# Altium footprint library Projekt91.PcbLib: 27 footprints (part 1 of 2)
Each footprint in its own frame and in the unit in brackets; x right, y up, seen from the top. Pads: shape width x height; smd on the part's side, far side on the other; paste and mask are expansions set on the pad; w line width, h text height; cw(c..) or ccw(c..) is an arc to the next point about the centre after c.
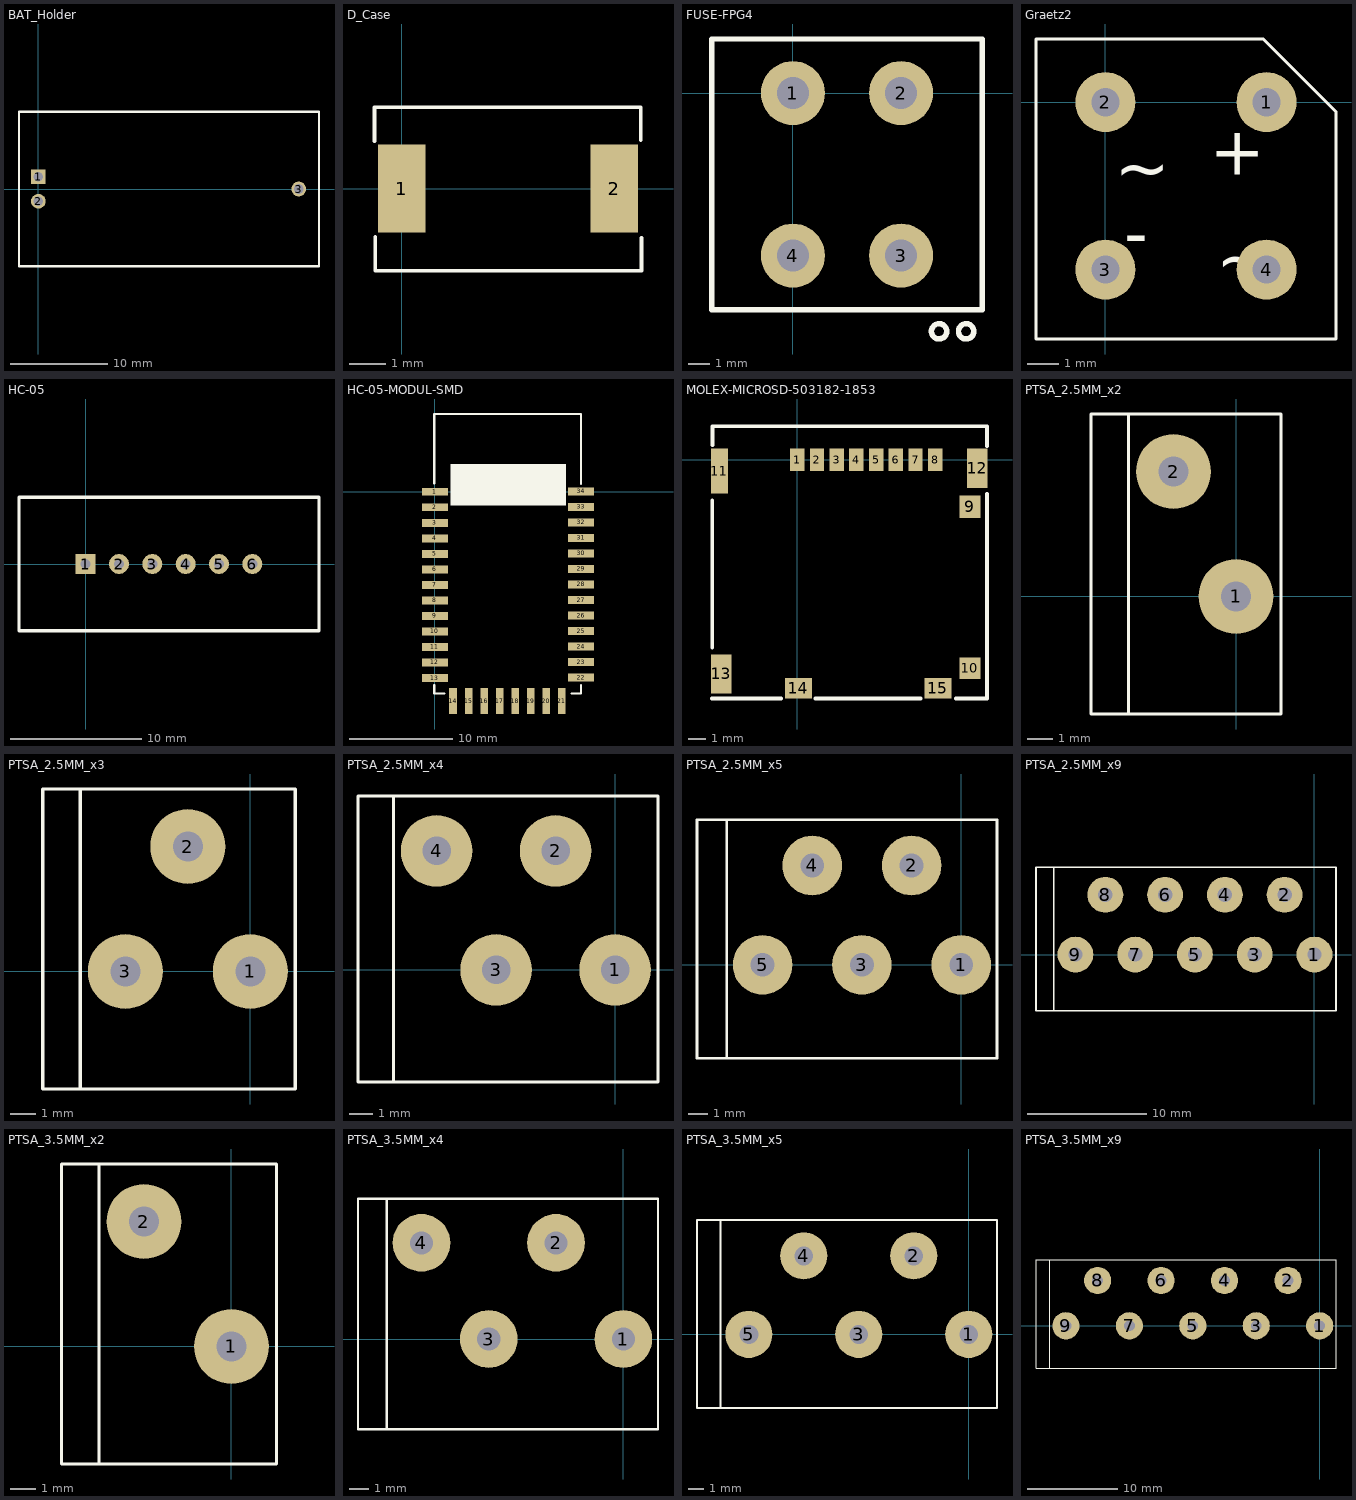
[diagram p0: the footprints below, top view; thin cyan lines are the x and y axes]

## BAT_Holder [mil] "Holder for CR2032 by Renata"
pads (3):
  rect 60x60 hole 39.37: 1(0,50)
  round 60 hole 39.37: 2(0,-50) 3(1059.06,0)
Top Overlay:
  lines w10: -78.74,-314.96 -78.74,314.96 1141.73,314.96 1141.73,-314.96 -78.74,-314.96

## D_Case [mm]
pads (2):
  rect 1.3x2.4 smd: 1(0,0) 2(5.8,0)
Top Overlay:
  lines w0.1: -0.75,1.3 -0.75,2.225 5.55,2.225 6.525,2.225 6.525,1.325 ; -0.725,-1.325 -0.725,-2.25 5.575,-2.25 6.55,-2.25 6.55,-1.35

## FUSE-FPG4 [mm]
pads (4):
  round 3 hole 1.5: 1(0,0) 2(5.08,0) 3(5.08,-7.62) 4(0,-7.62)
Top Overlay:
  circle w0.254: c8.128,-11.176 r0.359
  circle w0.254: c6.858,-11.176 r0.359
  lines w0.254: -3.81,-10.16 8.89,-10.16 8.89,2.54 2.286,2.54 -3.81,2.54 -3.81,-10.16

## Graetz2 [mm]
pads (4):
  round 1.9 hole 0.9: 1(5.1,0) 2(0,0) 3(0,-5.3) 4(5.1,-5.3)
Top Overlay:
  lines w0.1: -2.2,-7.5 -2.2,2 5,2 7.3,-0.3 7.3,-7.5 -2.2,-7.5
  text "-" at 0.6,-4.9 h1.52
  text "+" at 3.3,-2.3 h1.52
  text "~" at 3.5,-5.7 h1.52
  text "~" at 0.3,-2.8 h1.52

## HC-05 [mil] "HC-05 Bluetooth Transceiver Host Slave/Master Module Wireless Serial ( 6pin )"
pads (6):
  rect 60x60 hole 30: 1(0,0)
  round 60 hole 30: 2(100,0) 3(200,0) 4(300,0) 5(400,0) 6(500,0)
Top Overlay:
  lines w10: -200,-200 700,-200 700,200 -200,200 -200,-200

## HC-05-MODUL-SMD [mm]
pads (34):
  rect 2.5x0.76 smd: 1(0,0) 2(0,-1.5) 3(0,-3) 4(0,-4.5) 5(0,-6) 6(0,-7.5) 7(0,-9) 8(0,-10.5) 9(0,-12) 10(0,-13.5) 11(0,-15) 12(0,-16.5) 13(0,-18) 22(14.12,-17.96) 23(14.12,-16.46) 24(14.12,-14.96) 25(14.12,-13.46) 26(14.12,-11.96) 27(14.12,-10.46) 28(14.12,-8.96) 29(14.12,-7.46) 30(14.12,-5.96) 31(14.12,-4.46) 32(14.12,-2.96) 33(14.12,-1.46) 34(14.12,0.04)
  rect 0.76x2.5 smd: 14(1.76,-20.23) 15(3.26,-20.23) 16(4.76,-20.23) 17(6.26,-20.23) 18(7.76,-20.23) 19(9.26,-20.23) 20(10.76,-20.23) 21(12.26,-20.23)
Top Overlay:
  region: 12.679,-1.33 12.679,2.67 1.479,2.67 1.479,-1.33
  lines w0.2: -0.07,-18.68 -0.07,-19.48 0.9,-19.48 ; -0.07,0.8 -0.07,6.77 -0.07,7.52 0.68,7.52 13.38,7.52 14.13,7.52 14.13,6.77 14.13,0.77 ; 13.2,-19.48 14.13,-19.48 14.13,-18.68

## MOLEX-MICROSD-503182-1853 [mm]
pads (15):
  rect 0.8x1.24 smd: 1(0,0) 2(1.1,0) 3(2.2,0) 4(3.3,0) 5(4.4,0) 6(5.5,0) 7(6.6,0) 8(7.7,0)
  rect 1.16x1.25 smd: 9(9.64,-2.63)
  rect 1.16x1.2 smd: 10(9.64,-11.63)
  rect 0.95x2.5 smd: 11(-4.35,-0.63)
  rect 1.15x2.2 smd: 12(10.05,-0.47) 13(-4.24,-11.96)
  rect 1.5x1.15 smd: 14(0.06,-12.76) 15(7.85,-12.75)
Top Overlay:
  lines w0.2: -4.785,-13.33 -0.885,-13.33 ; -4.75,-10.5 -4.75,-2.25 ; -4.735,0.82 -4.735,1.87 10.59,1.87 ; 1.015,-13.33 6.89,-13.33 ; 8.84,-13.33 10.59,-13.33 10.59,-1.905 ; 10.565,1.87 10.59,1.845 10.59,0.77

## PTSA_2.5MM_x2 [mm]
pads (2):
  round 3 hole 1.2: 1(0,0) 2(-2.5,5)
Top Overlay:
  lines w0.127: -4.3,-4.7 -4.3,5 -4.3,7.3 ; -5.8,-4.7 1.8,-4.7 1.8,7.3 -5.8,7.3 -5.8,2.8 -5.8,-4.7

## PTSA_2.5MM_x3 [mm]
pads (3):
  round 3 hole 1.2: 1(0,0) 2(-2.5,5) 3(-5,0)
Top Overlay:
  lines w0.127: -6.8,-4.7 -6.8,7.3 ; -8.3,-4.7 1.8,-4.7 1.8,7.3 -8.3,7.3 -8.3,-4.7

## PTSA_2.5MM_x4 [mm]
pads (4):
  round 3 hole 1.2: 1(0,0) 2(-2.5,5) 3(-5,0) 4(-7.5,5)
Top Overlay:
  lines w0.127: -9.3,-4.7 -9.3,5 -9.3,7.3 ; -10.8,-4.7 -10.8,3.2 -10.8,7.3 1.8,7.3 1.8,-4.7 -10.8,-4.7

## PTSA_2.5MM_x5 [mm]
pads (5):
  round 3 hole 1.2: 1(0,0) 2(-2.5,5) 3(-5,0) 4(-7.5,5) 5(-10,0)
Top Overlay:
  lines w0.127: -11.8,-4.7 -11.8,0 -11.8,7.3 ; -13.3,-4.7 1.8,-4.7 1.8,7.3 -13.3,7.3 -13.3,0 -13.3,-4.7

## PTSA_2.5MM_x9 [mm]
pads (9):
  round 3 hole 1.2: 1(0,0) 2(-2.5,5) 3(-5,0) 4(-7.5,5) 5(-10,0) 6(-12.5,5) 7(-15,0) 8(-17.5,5) 9(-20,0)
Top Overlay:
  lines w0.127: -21.8,-4.7 -21.8,7.3 ; -23.3,-4.7 -23.3,7.3 1.8,7.3 1.8,-4.7 -23.3,-4.7

## PTSA_3.5MM_x2 [mm]
pads (2):
  round 3 hole 1.2: 1(0,0) 2(-3.5,5)
Top Overlay:
  lines w0.127: -5.3,-4.7 -5.3,7.3 ; -6.8,-4.7 1.8,-4.7 1.8,7.3 -6.8,7.3 -6.8,-4.7

## PTSA_3.5MM_x4 [mm]
pads (4):
  round 3 hole 1.2: 1(0,0) 2(-3.5,5) 3(-7,0) 4(-10.5,5)
Top Overlay:
  lines w0.127: -12.3,-4.7 -12.3,7.3 ; -13.8,-4.7 -13.8,7.3 1.8,7.3 1.8,-4.7 -13.8,-4.7

## PTSA_3.5MM_x5 [mm]
pads (5):
  round 3 hole 1.2: 1(0,0) 2(-3.5,5) 3(-7,0) 4(-10.5,5) 5(-14,0)
Top Overlay:
  lines w0.127: -15.8,-4.7 -15.8,7.3 ; -17.3,-4.7 1.8,-4.7 1.8,7.3 -17.3,7.3 -17.3,-4.7

## PTSA_3.5MM_x9 [mm]
pads (9):
  round 3 hole 1.2: 1(0,0) 2(-3.5,5) 3(-7,0) 4(-10.5,5) 5(-14,0) 6(-17.5,5) 7(-21,0) 8(-24.5,5) 9(-28,0)
Top Overlay:
  lines w0.127: -29.8,-4.7 -29.8,7.3 ; -31.3,-4.7 1.8,-4.7 1.8,7.3 -31.3,7.3 -31.3,-4.7